# Altium footprint library HSBNE-Vend.PcbLib: 37 footprints (part 3 of 3)
Each footprint in its own frame and in the unit in brackets; x right, y up, seen from the top. Pads: shape width x height; smd on the part's side, far side on the other; paste and mask are expansions set on the pad; w line width, h text height; cw(c..) or ccw(c..) is an arc to the next point about the centre after c.
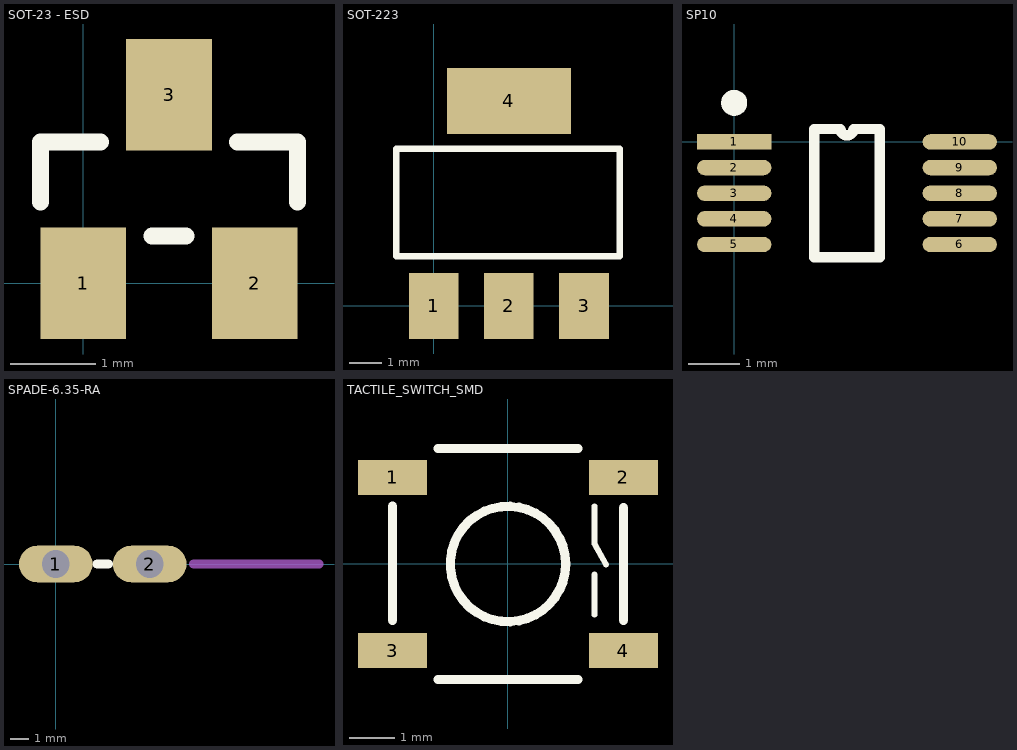
[diagram p2: the footprints below, top view; thin cyan lines are the x and y axes]

## SOT-23 - ESD [mm]
pads (3):
  rect 1x1.3 smd: 1(0,0) 2(2,0) 3(1,2.2)
Top Overlay:
  lines w0.2: -0.5,0.95 -0.5,1.65 0.2,1.65 ; 0.8,0.55 1.2,0.55 ; 1.8,1.65 2.5,1.65 2.5,0.95
3D body: height 1, standoff 0, extent -0.635,0.508 2.54,1.778

## SOT-223 [mil]
pads (4):
  rect 60x80 smd: 1(0,0) 2(91,0) 3(182,0)
  rect 150x80 smd: 4(91,248)
Top Overlay:
  lines w8: -45,60 -45,190 225,190 225,60 -45,60
3D body "SW3DPS-SOT-223-DEFAULT.STEP": height 62.99, standoff -3.15, extent -37.95,-7.01 217.95,267.01

## SP10 [mm]
pads (10):
  rect 1.45x0.3 smd: 1(0,0)
  oval 1.45x0.3 smd: 2(0,-0.5) 3(0,-1) 4(0,-1.5) 5(0,-2) 6(4.4,-2) 7(4.4,-1.5) 8(4.4,-1) 9(4.4,-0.5) 10(4.4,0)
Top Overlay:
  circle w0.254: c0,0.762 r0.127
  lines w0.2: 1.56,-2.25 1.56,0.25 2.075,0.25 ccw(c2.2,0.25) 2.325,0.25 2.84,0.25 2.84,-2.25 1.56,-2.25
3D body "User Library-IPC SOSOP50P490X109-10N MO-187BA MUB10A.STEP": height 1.24, standoff 0, extent -0.319,-2.566 4.637,0.534

## SPADE-6.35-RA [mm]
height 1
pads (2):
  oval 4x2 hole 1.5: 1(0,0) 2(5.1,0)
Top Overlay:
  lines w0.5: 2.25,0 2.85,0
Mechanical 3:
  lines w0.5: 7.5,0 14.3,0
3D body "JST_TAB3867B.68(MSTIN).STEP": height 9, standoff -3, extent -1.369,-0.419 14.831,0.381

## TACTILE_SWITCH_SMD [mil]
pads (4):
  rect 60x30 smd: 1(-100,75) 2(100,75) 3(-100,-75) 4(100,-75)
Top Overlay:
  circle w8: c0,0 r50
  lines w5: 75,-43.9 75,-9.05 ; 75,50 75,17.52 85.04,-0.39
  lines w8: -100,-48.82 -100,50 ; -60.63,-100 60.63,-100 ; -60.63,100 60.63,100 ; 100,-48.82 100,48.82
3D body: height 122.05, standoff 0, extent -58.58,-58.93 59.06,58.94
3D body: height 70.87, standoff 0, extent -103.35,-108.27 103.35,103.35